# Altium schematic symbol library SamacSys.SchLib: 9 symbols
Pins are listed as number, name and electrical type; pins without a type are passive.

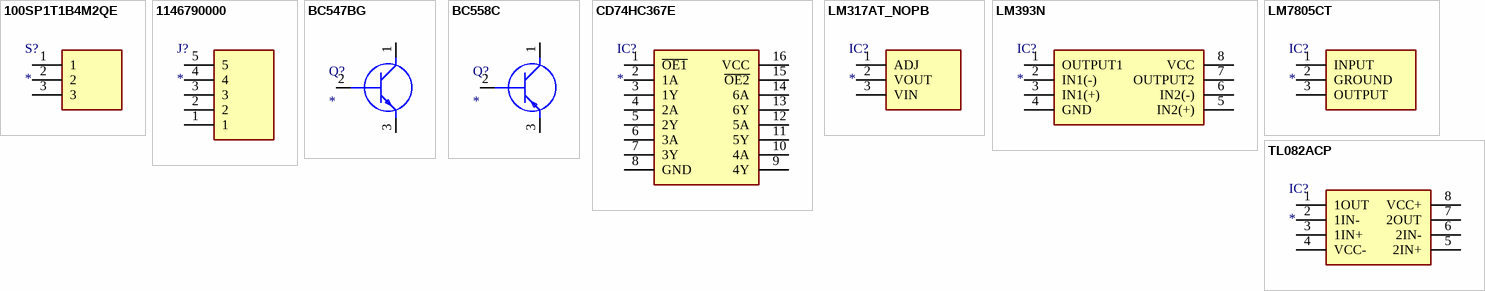
[diagram p0: symbols 100SP1T1B4M2QE to TL082ACP]

## 100SP1T1B4M2QE
designator S?
Switch; Manufacturer_Name: E-Switch; Manufacturer_Part_Number: 100SP1T1B4M2QE; Datasheet Link: https://configured-product-images.s3.amazonaws.com/2D/specs/100SP1T1B4M2QE.pdf; Height: 28mm; Mouser Part Number: 612-100-A1421; Mouser Price/Stock: https://www.mouser.co.uk/ProductDetail/E-Switch/100SP1T1B4M2QE?qs=YXf4ACKMM4xJ0mJK%2FyIa1g%3D%3D
footprint 100SP1T1B4M2QE
pins: 1, 2, 3

## 1146790000
designator J?
Connector; Manufacturer_Name: Weidmuller; Manufacturer_Part_Number: 1146790000; Datasheet Link: http://catalog.weidmueller.com/createDatasheetForMobile.do?ordernumber=1146790000&scope1=1&scope2=1&localeId=en; Height: 8.4mm
footprint 1146790000
pins: 1, 2, 3, 4, 5

## BC547BG
designator Q?
Transistor BJT NPN; Manufacturer_Name: onsemi; Manufacturer_Part_Number: BC547BG; Datasheet Link: https://www.onsemi.com/download/data-sheet/pdf/BC546-D.PDF; Height: 5.33mm; Mouser Part Number: N/A; Mouser Price/Stock: http://www.mouser.com/Search/ProductDetail.aspx?qs=NSmgnqlvnz5NIKIycfR5CQ%3d%3d; Arrow Part Number: BC547BG; Arrow Price/Stock: http://www.arrow.com/en/products/bc547bg/on-semiconductor
footprint BC547BG
pins: 1 C, 2 B, 3 E

## BC558C
designator Q?
Transistor BJT PNP; Manufacturer_Name: onsemi; Manufacturer_Part_Number: BC558C; Datasheet Link: https://www.onsemi.com/download/data-sheet/pdf/BC556B-D.PDF; Height: 5.33mm; Mouser Part Number: 512-BC558C; Mouser Price/Stock: https://www.mouser.com/Search/Refine.aspx?Keyword=512-BC558C
footprint BC558C
pins: 1 C, 2 B, 3 E

## CD74HC367E
designator IC?
Integrated Circuit; Manufacturer_Name: Texas Instruments; Manufacturer_Part_Number: CD74HC367E; Datasheet Link: https://www.ti.com/lit/ds/symlink/cd74hc367.pdf?ts=1619589374451&ref_url=https%253A%252F%252Fwww.ti.com%252Fstore%252Fti%252Fen%252Fp%252Fproduct%252F%253Fp%253DCD74HC367E; Height: 5.08mm; Mouser Part Number: 595-CD74HC367E; Mouser Price/Stock: https://www.mouser.co.uk/ProductDetail/Texas-Instruments/CD74HC367E?qs=xFfolx0DHx1dmtXXzN7naA%3D%3D
footprint DIP-16_mod
pins: 1 ~{OE1}, 2 1A, 3 1Y, 4 2A, 5 2Y, 6 3A, 7 3Y, 8 GND, 9 4Y, 10 4A, 11 5Y, 12 5A, 13 6Y, 14 6A, 15 ~{OE2}, 16 VCC

## LM317AT_NOPB
designator IC?
Integrated Circuit; Manufacturer_Name: Texas Instruments; Manufacturer_Part_Number: LM317AT/NOPB; Datasheet Link: http://www.ti.com/lit/gpn/lm317a; Height: 4.7mm; Mouser Part Number: 926-LM317AT/NOPB; Mouser Price/Stock: https://www.mouser.co.uk/ProductDetail/Texas-Instruments/LM317AT-NOPB?qs=X1J7HmVL2ZFYFJRcNgsWcQ%3D%3D; Arrow Part Number: LM317AT/NOPB; Arrow Price/Stock: https://www.arrow.com/en/products/lm317atnopb/texas-instruments?region=nac
footprint TO254_mod
pins: 1 ADJ, 2 VOUT, 3 VIN

## LM393N
designator IC?
Integrated Circuit; Manufacturer_Name: Texas Instruments; Manufacturer_Part_Number: LM393N; Datasheet Link: https://datasheet.datasheetarchive.com/originals/distributors/Datasheets-SFU2/DSASFU100036444.pdf; Height: 5.33mm; Mouser Part Number: 926-LM393N; Mouser Price/Stock: https://www.mouser.co.uk/ProductDetail/Texas-Instruments/LM393N?qs=QbsRYf82W3HvgSG%252BWhL68w%3D%3D
footprint DIP-8_mod
pins: 1 OUTPUT1, 2 IN1(-), 3 IN1(+), 4 GND, 5 IN2(+), 6 IN2(-), 7 OUTPUT2, 8 VCC

## LM7805CT
designator IC?
Integrated Circuit; Manufacturer_Name: Texas Instruments; Manufacturer_Part_Number: LM7805CT; Datasheet Link: http://www.ti.com/lit/ds/symlink/lm340.pdf; Height: 4.7mm; Mouser Part Number: 926-LM7805CT; Mouser Price/Stock: https://www.mouser.co.uk/ProductDetail/Texas-Instruments/LM7805CT?qs=QbsRYf82W3EaqXeMDVwIfQ%3D%3D; Arrow Part Number: LM7805CT; Arrow Price/Stock: https://www.arrow.com/en/products/lm7805ct/texas-instruments?region=europe
footprint TO254P470X1028X1955-3P
pins: 1 INPUT, 2 GROUND, 3 OUTPUT

## TL082ACP
designator IC?
Integrated Circuit; Manufacturer_Name: Texas Instruments; Manufacturer_Part_Number: TL082ACP; Datasheet Link: http://www.ti.com/lit/ds/symlink/tl081a.pdf; Height: 5.08mm; Mouser Part Number: 595-TL082ACP; Mouser Price/Stock: https://www.mouser.co.uk/ProductDetail/Texas-Instruments/TL082ACP?qs=0le1rQK8zxrLXibbSNmvcA%3D%3D; Arrow Part Number: TL082ACP; Arrow Price/Stock: https://www.arrow.com/en/products/tl082acp/texas-instruments?utm_currency=USD&region=nac
footprint DIP794W53P254L959H508Q8N
pins: 1 1OUT, 2 1IN-, 3 1IN+, 4 VCC-, 5 2IN+, 6 2IN-, 7 2OUT, 8 VCC+